# EAGLE library part LNK30X (library userdefined)
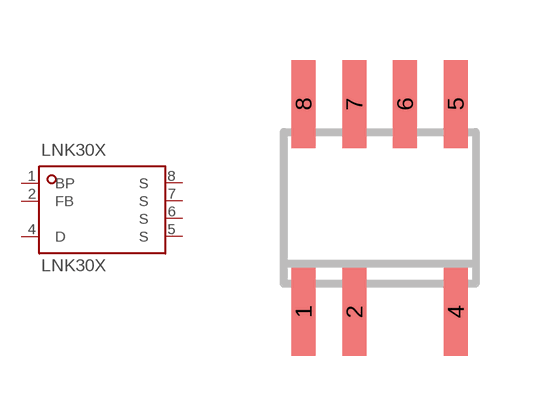
[diagram p0: symbol with the pads of SO08C; footprint SO08C]

Designator prefix LNK30X

## LNK30X  [SO08C]
1  BP  out
2  FB  in
4  D  in
5  S  out
6  S  out
7  S  out
8  S  out

## Footprint SO08C (pad centres in mm)
Small Outline Package 8 NS Package M08A
smd 0.6 x 2.2: 1 -1.905,-2.6; 2 -0.635,-2.6; 4 1.905,-2.6; 5 1.905,2.6; 6 0.635,2.6; 7 -0.635,2.6; 8 -1.905,2.6